# Altium schematic symbol library XC6220B331PR-G_SCH.SchLib: 13 symbols
Pins are listed as number, name and electrical type; pins without a type are passive.

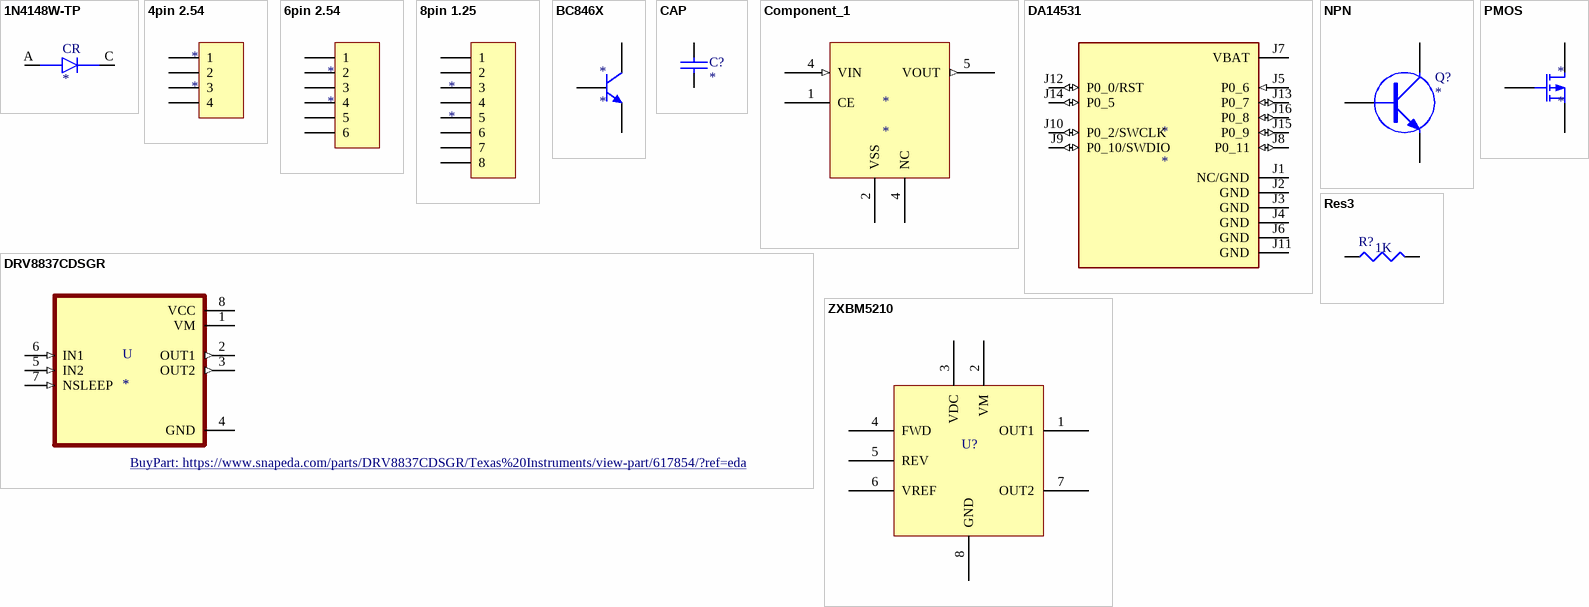
[diagram p0: symbols 1N4148W-TP to ZXBM5210]

## 1N4148W-TP
designator CR
Diode Standard 100V 150mA Surface Mount SOD-123; MF: Micro Commercial; MP: 1N4148W-TP; Value: *; Package: SOD-123 Microsemi; Price: None; Availability: Unavailable; SnapEDA_Link: https://www.snapeda.com/parts/1N4148W-TP/Micro%20Commercial/view-part/232376/?ref=snap
footprint SOD123
pins: A, C

## 4pin 2.54
designator *
footprint 4pin_2.54mm
pins: 1, 2, 3, 4

## 6pin 2.54
designator *
pins: 1, 2, 3, 4, 5, 6

## 8pin 1.25
designator *
pins: 1, 2, 3, 4, 5, 6, 7, 8

## BC846X
designator *
footprint BC846
pins: 1 C, 2 E, 3 B

## CAP
designator C?
Capacitor
footprint 0805_C
footprint 1206_C
footprint 1812_C
footprint 0603_C
footprint 1210_C
footprint CAP (Footprint not found)
pins: 1, 2

## Component_1
designator *
footprint CONV_AL8861Y-13
pins: 1 CE, 2 VSS, 4 VIN (in), 4 NC, 5 VOUT (out)

## DA14531
designator *
pins: J1 NC/GND, J2 GND (power), J3 GND (power), J4 GND (power), J5 P0_6 (in), J6 GND (power), J7 VBAT (power), J8 P0_11 (io), J9 P0_10/SWDIO (io), J10 P0_2/SWCLK (io), J11 GND (power), J12 P0_0/RST (io), J13 P0_7 (io), J14 P0_5 (io), J15 P0_9 (io), J16 P0_8 (io)

## DRV8837CDSGR
designator U
11-V, 1-A H-bridge motor driver 8-WSON -40 to 85; MF: Texas Instruments; MP: DRV8837CDSGR; Mouser-Purchase-URL: https://snapeda.com/shop?store=Mouser&id=617854; Value: *; DigiKey-Purchase-URL: https://snapeda.com/shop?store=DigiKey&id=617854; Package: WSON-8 Texas Instruments; Texas_Instruments-Purchase-URL: https://snapeda.com/shop?store=Texas+Instruments&id=617854; Price: None; SnapEDA_Link: https://www.snapeda.com/parts/DRV8837CDSGR/Texas%20Instruments/view-part/617854/?ref=snap; Availability: Good; BuyPart: https://www.snapeda.com/parts/DRV8837CDSGR/Texas%20Instruments/view-part/617854/?ref=eda
footprint SON50P200X200X80-9N
pins: 1 VM (power), 2 OUT1 (out), 3 OUT2 (out), 4 GND (power), 5 IN2 (in), 6 IN1 (in), 7 NSLEEP (in), 8 VCC (power)

## NPN
designator Q?
NPN Transistor
footprint SOT-23-DEL
footprint TO-92B
footprint TO-92A
footprint TO-92B - W
pins: B, C, E

## PMOS
designator *
pins: 1 D, 2 G, 3 S

## Res3
designator R?  value 1K
Resistor; Published: 8-Jun-2000; LatestRevisionDate: 29-May-2009; LatestRevisionNote: IPC-7351 Footprint Added.; PackageReference: J1-0603; Publisher: Altium Limited; PackageDescription: Chip Resistor
footprint 0805_R
pins: 1, 2

## ZXBM5210
designator U?  (value not drawn)
footprint SOIC127P600X180-8N
pins: 1 OUT1, 2 VM, 3 VDC, 4 FWD, 5 REV, 6 VREF, 7 OUT2, 8 GND